# Altium footprint library MOLEX_0436500400.PcbLib: 1 footprints
Each footprint in its own frame and in the unit in brackets; x right, y up, seen from the top. Pads: shape width x height; smd on the part's side, far side on the other; paste and mask are expansions set on the pad; w line width, h text height; cw(c..) or ccw(c..) is an arc to the next point about the centre after c.
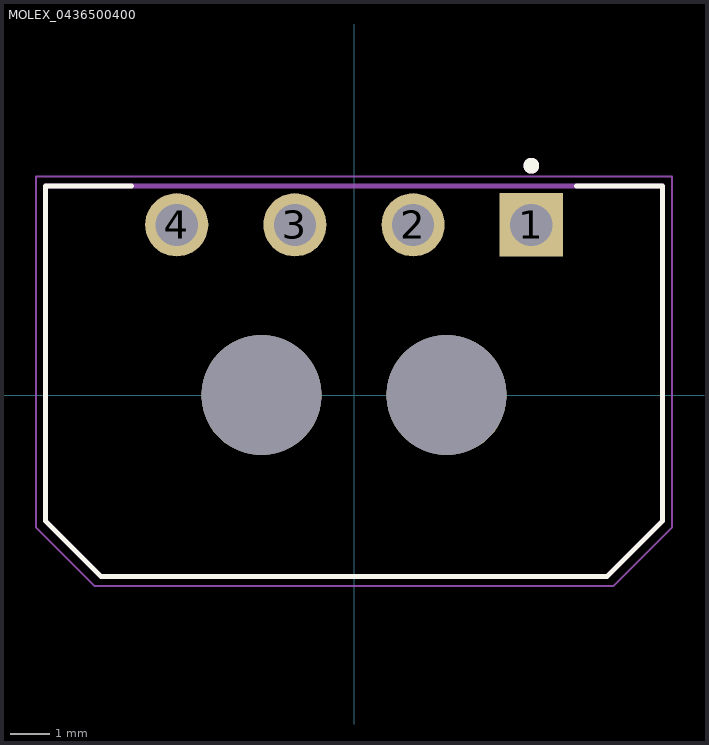
[diagram p0: the footprint, top view; thin cyan lines are the x and y axes]

## MOLEX_0436500400 [mm]
pads (6):
  rect 1.605x1.605 hole 1.07: 1(4.5,4.32)
  round 1.605 hole 1.07: 2(1.5,4.32) 3(-1.5,4.32) 4(-4.5,4.32)
  round 3.05 hole 3.05 unplated: ""(-2.35,0) ""(2.35,0)
Top Overlay:
  circle w0.2: c4.5,5.82 r0.1
  lines w0.127: -5.65,5.3 -7.825,5.3 -7.825,-3.2 -6.425,-4.6 6.425,-4.6 7.825,-3.2 7.825,5.3 5.65,5.3
Mechanical 13:
  circle w0.2: c4.5,5.82 r0.1
  lines w0.127: -7.825,-3.2 -6.425,-4.6 6.425,-4.6 7.825,-3.2 7.825,5.3 -7.825,5.3 -7.825,-3.2
Mechanical 15:
  lines w0.05: -8.075,-3.35 -6.575,-4.85 6.575,-4.85 8.075,-3.35 8.075,5.55 -8.075,5.55 -8.075,-3.35
3D body "0436500400--3DModel-STEP-231308.STEP": height 3.14, standoff -5.77, extent -7.825,-4.95 7.825,4.95